# Altium footprint library 0532610371.PcbLib: 1 footprints
Each footprint in its own frame and in the unit in brackets; x right, y up, seen from the top. Pads: shape width x height; smd on the part's side, far side on the other; paste and mask are expansions set on the pad; w line width, h text height; cw(c..) or ccw(c..) is an arc to the next point about the centre after c.
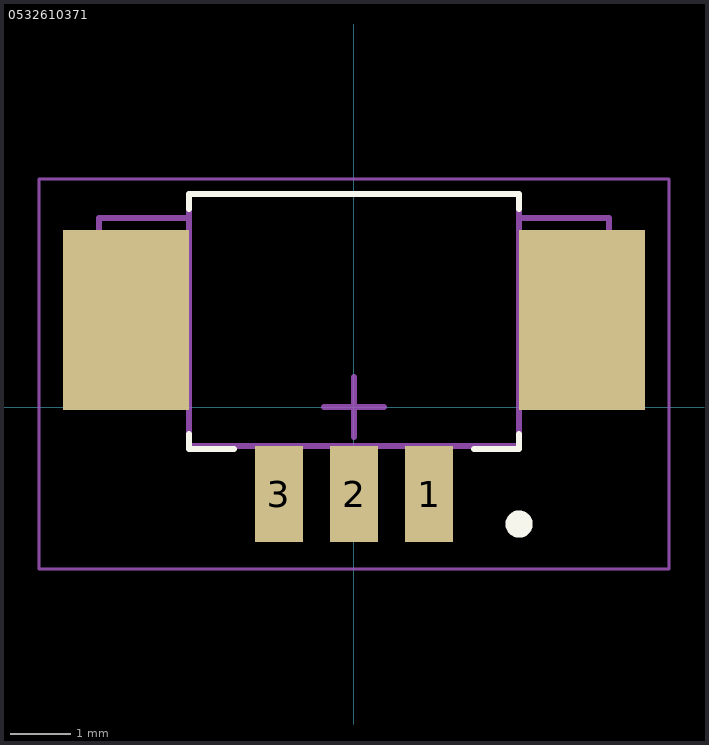
[diagram p0: the footprint, top view; thin cyan lines are the x and y axes]

## 0532610371 [mm]
pads (5):
  rect 0.8x1.6 smd: 1(1.25,-1.45) 2(0,-1.45) 3(-1.25,-1.45)
  rect 2.1x3 smd: ""(-3.8,1.45) ""(3.8,1.45)
Top Overlay:
  circle w0.254: c2.75,-1.95 r0.1
  lines w0.1: -2.75,-0.45 -2.75,-0.7 -2,-0.7 ; -2.75,3.3 -2.75,3.55 2.75,3.55 2.75,3.3 ; 2,-0.7 2.75,-0.7 2.75,-0.45
Mechanical 1:
  lines w0.1: -2.75,0.35 -4.25,0.35 -4.25,3.15 -2.75,3.15 ; 2.75,0.35 4.25,0.35 4.25,3.15 2.75,3.15 ; -2.75,-0.65 2.75,-0.65 2.75,3.55 -2.75,3.55 -2.75,-0.65
  text ".Designator" at -2.624,1.067 h0.65
Mechanical 2:
  lines w0.05: -5.25,-2.7 -5.25,3.8 5.25,3.8 5.25,-2.7 -5.25,-2.7
  lines w0.1: -0.5,0 0.5,0 ; 0,-0.5 0,0.5
3D body "532610371.stp": height 3.2, standoff -0.2, extent -4.45,-1.65 4.45,3.55